# Altium schematic symbol library 2014-09-02_06-17-43.SchLib: 10 symbols
Pins are listed as number, name and electrical type; pins without a type are passive.

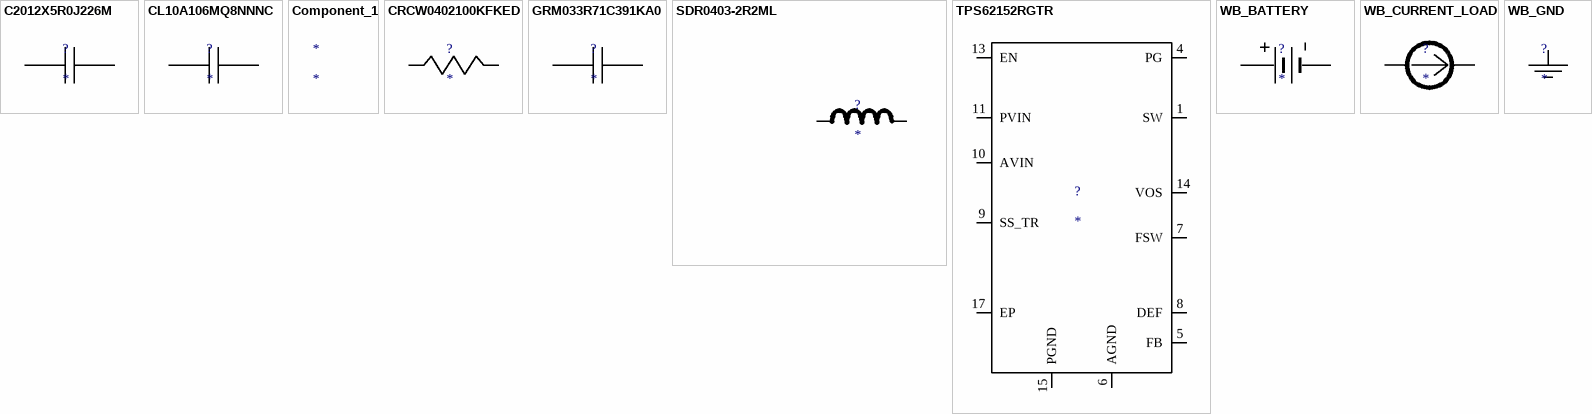
[diagram p0: symbols C2012X5R0J226M to WB_GND]

## C2012X5R0J226M
designator ?
Imported; Manufacturer_Part_Number: C2012X5R0J226M; Vendor: TDK; Datasheet URL: http://www.tdk.co.jp/tefe02/e3179%5Fc.pdf; Manufacturer_Name: TDK; RefDes: RefDes; Type: DEV; Value: Value
footprint 0805
pins: 1, 2

## CL10A106MQ8NNNC
designator ?
Imported; Manufacturer_Part_Number: CL10A106MQ8NNNC; Manufacturer_Name: Samsung Electro-Mechanics; Vendor: Samsung Semiconductor; RefDes: RefDes; Type: DEV; Value: Value
footprint 0603
pins: 1, 2

## Component_1
designator *

## CRCW0402100KFKED
designator ?
Imported; Manufacturer_Part_Number: CRCW0402100KFKED; Vendor: Vishay-Dale; Manufacturer_Name: Vishay-Dale; RefDes: RefDes; Type: DEV; Value: Value
footprint 0402
pins: 1, 2

## GRM033R71C391KA0
designator ?
Imported; Manufacturer_Part_Number: GRM033R71C391KA01D; Vendor: MuRata; Manufacturer_Name: MuRata; RefDes: RefDes; Type: DEV; Value: Value
footprint 0201
pins: 1, 2

## SDR0403-2R2ML
designator ?
Imported; Manufacturer_Part_Number: SDR0403-2R2ML; Vendor: Bourns; Manufacturer_Name: Bourns; RefDes: RefDes; Type: DEV; Value: Value
footprint SDR0403
pins: 1, 2

## TPS62152RGTR
designator ?
Imported; Frequency: 2500000.0; Imax: 3.0; Mktg_Package: S-PVQFN-N16; NSID: TPS62131RGTR; Vendor: Texas Instruments; Datasheet URL: http://www.ti.com/product/tps62131; Package: S-PVQFN-N16; Manufacturer_Part_Number: TPS62131RGTR; Manufacturer_Name: Texas Instruments; RefDes: RefDes; Type: DEV; Value: Value
footprint S-PVQFN-N16
pins: 1 SW, 2 SW, 3 SW, 4 PG, 5 FB, 6 AGND, 7 FSW, 8 DEF, 9 SS_TR, 10 AVIN, 11 PVIN, 12 PVIN, 13 EN, 14 VOS, 15 PGND, 16 PGND, 17 EP

## WB_BATTERY
designator ?
Imported; Manufacturer_Part_Number: WB_BATTERY; PowerPortType: POWER_GROUND; Value: Value; Manufacturer_Name: WB_BATTERY; RefDes: RefDes; Type: TYPE
pins: 1 +, 2 -

## WB_CURRENT_LOAD
designator ?
Imported; Manufacturer_Part_Number: WB_CURRENT_LOAD; PowerPortType: POWER_GROUND; Value: Value; Manufacturer_Name: WB_CURRENT_LOAD; RefDes: RefDes; Type: TYPE
pins: 1 +, 2 -

## WB_GND
designator ?
Imported; Manufacturer_Part_Number: WB_GND; PowerPortType: POWER_GROUND; Value: Value; Manufacturer_Name: WB_GND; RefDes: RefDes; Type: TYPE
pins: 1